# Altium footprint library Diod.PcbLib: 392 footprints (part 22 of 25)
Each footprint in its own frame and in the unit in brackets; x right, y up, seen from the top. Pads: shape width x height; smd on the part's side, far side on the other; paste and mask are expansions set on the pad; w line width, h text height; cw(c..) or ccw(c..) is an arc to the next point about the centre after c.
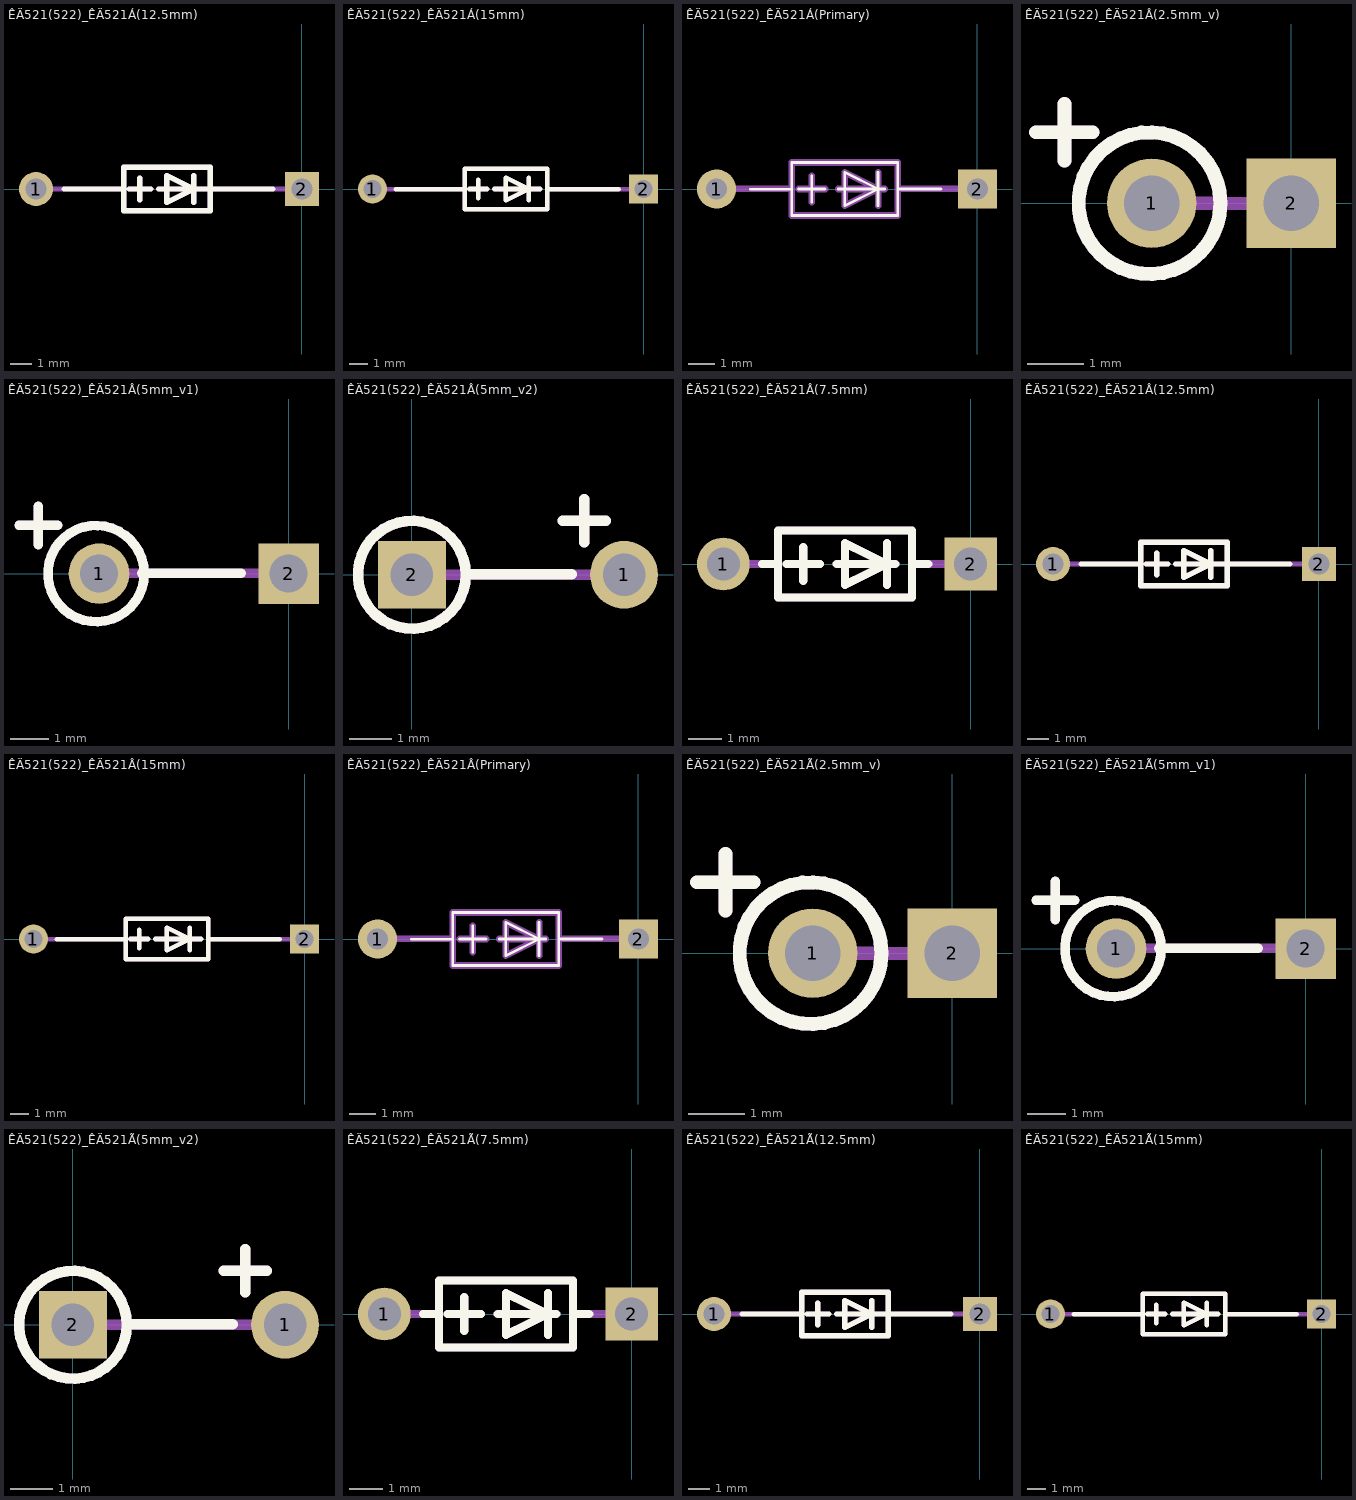
[diagram p21: the footprints below, top view; thin cyan lines are the x and y axes]

## ÊÄ521(522)_ÊÄ521Á(12.5mm) [mm]
pads (2):
  round 1.6 hole 1: 1(-12.5,0)
  rect 1.6x1.6 hole 1: 2(0,0)
Top Overlay:
  lines w0.25: -11.187,0 -8.382,0 ; -8.128,0 -7.112,0 ; -7.62,-0.508 -7.62,0.508 ; -6.731,0 -6.35,0 -4.445,0 ; -5.08,-0.635 -5.08,0.635 ; -4.318,0 -1.371,0 ; -8.382,-1.016 -4.318,-1.016 -4.318,1.016 -8.382,1.016 -8.382,-1.016 ; -6.35,-0.635 -5.08,0 -6.35,0.635 -6.35,-0.635
Mechanical 1:
  lines w0.25: -12.503,0 -8.382,0 ; -8.128,0 -7.112,0 ; -7.62,-0.508 -7.62,0.508 ; -6.731,0 -6.35,0 -4.445,0 ; -5.08,-0.635 -5.08,0.635 ; -4.318,0 0,0.006 ; -8.382,-1.016 -4.318,-1.016 -4.318,1.016 -8.382,1.016 -8.382,-1.016 ; -6.35,-0.635 -5.08,0 -6.35,0.635 -6.35,-0.635

## ÊÄ521(522)_ÊÄ521Á(15mm) [mm]
pads (2):
  round 1.6 hole 1: 1(-15,0)
  rect 1.6x1.6 hole 1: 2(0,0)
Top Overlay:
  lines w0.25: -13.714,-0.001 -9.906,0 ; -9.652,0 -8.636,0 ; -9.144,-0.508 -9.144,0.508 ; -8.255,0 -5.715,0 ; -6.35,-0.635 -6.35,0.635 ; -5.334,0 -1.361,-0.004 ; -9.906,-1.118 -5.334,-1.118 -5.334,1.118 -9.906,1.118 -9.906,-1.118 ; -7.62,-0.635 -7.62,0.635 -6.35,0 -7.62,-0.635
Mechanical 1:
  lines w0.25: -15.003,-0.004 -9.906,0 ; -9.652,0 -8.636,0 ; -9.144,-0.508 -9.144,0.508 ; -8.255,0 -5.715,0 ; -6.35,-0.635 -6.35,0.635 ; -5.334,0 0,-0.004 ; -9.906,-1.118 -5.334,-1.118 -5.334,1.118 -9.906,1.118 -9.906,-1.118 ; -7.62,-0.635 -7.62,0.635 -6.35,0 -7.62,-0.635

## ÊÄ521(522)_ÊÄ521Á(Primary) [mm]
pads (2):
  round 1.5 hole 0.8: 1(-10,0)
  rect 1.5x1.5 hole 0.8: 2(0,0)
Top Overlay:
  lines w0.1: -8.707,-0.004 -7.112,0 ; -6.858,0 -5.842,0 ; -6.35,-0.508 -6.35,0.508 ; -5.334,0 -3.556,0 ; -3.81,-0.635 -3.81,0.635 ; -3.048,0 -1.398,-0.002 ; -7.112,-1.016 -3.048,-1.016 -3.048,1.016 -7.112,1.016 -7.112,-1.016 ; -5.08,-0.635 -3.81,0 -5.08,0.635 -5.08,-0.635
Mechanical 1:
  lines w0.25: -10.002,0.003 -7.112,0 ; -6.858,0 -5.842,0 ; -6.35,-0.508 -6.35,0.508 ; -5.334,0 -3.556,0 ; -3.81,-0.635 -3.81,0.635 ; -3.048,0 0,0.003 ; -7.112,-1.016 -3.048,-1.016 -3.048,1.016 -7.112,1.016 -7.112,-1.016 ; -5.08,-0.635 -3.81,0 -5.08,0.635 -5.08,-0.635

## ÊÄ521(522)_ÊÄ521Â(2.5mm_v) [mm]
pads (2):
  round 1.6 hole 1: 1(-2.5,0)
  rect 1.6x1.6 hole 1: 2(0,0)
Top Overlay:
  circle w0.25: c-2.54,0 r1.27
  lines w0.25: -4.572,1.27 -3.556,1.27 ; -4.064,0.762 -4.064,1.778
Mechanical 1:
  circle w0.25: c-2.54,0 r1.27
  lines w0.25: -4.572,1.27 -3.556,1.27 ; -4.064,0.762 -4.064,1.778 ; -2.33,0 -0.43,-0.01

## ÊÄ521(522)_ÊÄ521Â(5mm_v1) [mm]
pads (2):
  round 1.6 hole 1: 1(-5,0)
  rect 1.6x1.6 hole 1: 2(0,0)
Top Overlay:
  circle w0.25: c-5.08,0 r1.27
  lines w0.25: -7.112,1.27 -6.096,1.27 ; -6.604,0.762 -6.604,1.778 ; -3.877,0.007 -1.251,0.007
Mechanical 1:
  circle w0.25: c-5.08,0 r1.27
  lines w0.25: -7.112,1.27 -6.096,1.27 ; -6.604,0.762 -6.604,1.778 ; -4.77,0.01 -0.42,0.01

## ÊÄ521(522)_ÊÄ521Â(5mm_v2) [mm]
pads (2):
  round 1.6 hole 1: 1(5,0)
  rect 1.6x1.6 hole 1: 2(0,0)
Top Overlay:
  circle w0.25: c0,0 r1.27
  lines w0.25: 1.266,0.008 3.761,0.008 ; 3.556,1.27 4.572,1.27 ; 4.064,0.762 4.064,1.778
Mechanical 1:
  circle w0.25: c0,0 r1.27
  lines w0.25: 0,0 4.5,0 ; 3.556,1.27 4.572,1.27 ; 4.064,0.762 4.064,1.778

## ÊÄ521(522)_ÊÄ521Â(7.5mm) [mm]
pads (2):
  round 1.6 hole 1: 1(-7.5,0)
  rect 1.6x1.6 hole 1: 2(0,0)
Top Overlay:
  lines w0.25: -6.328,-0.001 -5.842,0 ; -5.588,0 -4.572,0 ; -5.08,-0.508 -5.08,0.508 ; -4.064,0 -2.286,0 ; -2.54,-0.635 -2.54,0.635 ; -1.778,0 -1.284,-0.001 ; -5.842,-1.016 -1.778,-1.016 -1.778,1.016 -5.842,1.016 -5.842,-1.016 ; -3.81,-0.635 -2.54,0 -3.81,0.635 -3.81,-0.635
Mechanical 1:
  lines w0.25: -7.499,-0.001 -5.842,0 ; -5.588,0 -4.572,0 ; -5.08,-0.508 -5.08,0.508 ; -4.064,0 -2.286,0 ; -2.54,-0.635 -2.54,0.635 ; -1.778,0 0.001,-0.001 ; -5.842,-1.016 -1.778,-1.016 -1.778,1.016 -5.842,1.016 -5.842,-1.016 ; -3.81,-0.635 -2.54,0 -3.81,0.635 -3.81,-0.635

## ÊÄ521(522)_ÊÄ521Â(12.5mm) [mm]
pads (2):
  round 1.6 hole 1: 1(-12.5,0)
  rect 1.6x1.6 hole 1: 2(0,0)
Top Overlay:
  lines w0.25: -11.187,0 -8.382,0 ; -8.128,0 -7.112,0 ; -7.62,-0.508 -7.62,0.508 ; -6.731,0 -6.35,0 -4.445,0 ; -5.08,-0.635 -5.08,0.635 ; -4.318,0 -1.371,0 ; -8.382,-1.016 -4.318,-1.016 -4.318,1.016 -8.382,1.016 -8.382,-1.016 ; -6.35,-0.635 -5.08,0 -6.35,0.635 -6.35,-0.635
Mechanical 1:
  lines w0.25: -12.503,0 -8.382,0 ; -8.128,0 -7.112,0 ; -7.62,-0.508 -7.62,0.508 ; -6.731,0 -6.35,0 -4.445,0 ; -5.08,-0.635 -5.08,0.635 ; -4.318,0 0,0.006 ; -8.382,-1.016 -4.318,-1.016 -4.318,1.016 -8.382,1.016 -8.382,-1.016 ; -6.35,-0.635 -5.08,0 -6.35,0.635 -6.35,-0.635

## ÊÄ521(522)_ÊÄ521Â(15mm) [mm]
pads (2):
  round 1.6 hole 1: 1(-15,0)
  rect 1.6x1.6 hole 1: 2(0,0)
Top Overlay:
  lines w0.25: -13.714,-0.001 -9.906,0 ; -9.652,0 -8.636,0 ; -9.144,-0.508 -9.144,0.508 ; -8.255,0 -5.715,0 ; -6.35,-0.635 -6.35,0.635 ; -5.334,0 -1.361,-0.004 ; -9.906,-1.118 -5.334,-1.118 -5.334,1.118 -9.906,1.118 -9.906,-1.118 ; -7.62,-0.635 -7.62,0.635 -6.35,0 -7.62,-0.635
Mechanical 1:
  lines w0.25: -15.003,-0.004 -9.906,0 ; -9.652,0 -8.636,0 ; -9.144,-0.508 -9.144,0.508 ; -8.255,0 -5.715,0 ; -6.35,-0.635 -6.35,0.635 ; -5.334,0 0,-0.004 ; -9.906,-1.118 -5.334,-1.118 -5.334,1.118 -9.906,1.118 -9.906,-1.118 ; -7.62,-0.635 -7.62,0.635 -6.35,0 -7.62,-0.635

## ÊÄ521(522)_ÊÄ521Â(Primary) [mm]
pads (2):
  round 1.5 hole 0.8: 1(-10,0)
  rect 1.5x1.5 hole 0.8: 2(0,0)
Top Overlay:
  lines w0.1: -8.707,-0.004 -7.112,0 ; -6.858,0 -5.842,0 ; -6.35,-0.508 -6.35,0.508 ; -5.334,0 -3.556,0 ; -3.81,-0.635 -3.81,0.635 ; -3.048,0 -1.398,-0.002 ; -7.112,-1.016 -3.048,-1.016 -3.048,1.016 -7.112,1.016 -7.112,-1.016 ; -5.08,-0.635 -3.81,0 -5.08,0.635 -5.08,-0.635
Mechanical 1:
  lines w0.25: -10.002,0.003 -7.112,0 ; -6.858,0 -5.842,0 ; -6.35,-0.508 -6.35,0.508 ; -5.334,0 -3.556,0 ; -3.81,-0.635 -3.81,0.635 ; -3.048,0 0,0.003 ; -7.112,-1.016 -3.048,-1.016 -3.048,1.016 -7.112,1.016 -7.112,-1.016 ; -5.08,-0.635 -3.81,0 -5.08,0.635 -5.08,-0.635

## ÊÄ521(522)_ÊÄ521Ã(2.5mm_v) [mm]
pads (2):
  round 1.6 hole 1: 1(-2.5,0)
  rect 1.6x1.6 hole 1: 2(0,0)
Top Overlay:
  circle w0.25: c-2.54,0 r1.27
  lines w0.25: -4.572,1.27 -3.556,1.27 ; -4.064,0.762 -4.064,1.778
Mechanical 1:
  circle w0.25: c-2.54,0 r1.27
  lines w0.25: -4.572,1.27 -3.556,1.27 ; -4.064,0.762 -4.064,1.778 ; -2.33,0 -0.43,-0.01

## ÊÄ521(522)_ÊÄ521Ã(5mm_v1) [mm]
pads (2):
  round 1.6 hole 1: 1(-5,0)
  rect 1.6x1.6 hole 1: 2(0,0)
Top Overlay:
  circle w0.25: c-5.08,0 r1.27
  lines w0.25: -7.112,1.27 -6.096,1.27 ; -6.604,0.762 -6.604,1.778 ; -3.877,0.007 -1.251,0.007
Mechanical 1:
  circle w0.25: c-5.08,0 r1.27
  lines w0.25: -7.112,1.27 -6.096,1.27 ; -6.604,0.762 -6.604,1.778 ; -4.77,0.01 -0.42,0.01

## ÊÄ521(522)_ÊÄ521Ã(5mm_v2) [mm]
pads (2):
  round 1.6 hole 1: 1(5,0)
  rect 1.6x1.6 hole 1: 2(0,0)
Top Overlay:
  circle w0.25: c0,0 r1.27
  lines w0.25: 1.266,0.008 3.761,0.008 ; 3.556,1.27 4.572,1.27 ; 4.064,0.762 4.064,1.778
Mechanical 1:
  circle w0.25: c0,0 r1.27
  lines w0.25: 0,0 4.5,0 ; 3.556,1.27 4.572,1.27 ; 4.064,0.762 4.064,1.778

## ÊÄ521(522)_ÊÄ521Ã(7.5mm) [mm]
pads (2):
  round 1.6 hole 1: 1(-7.5,0)
  rect 1.6x1.6 hole 1: 2(0,0)
Top Overlay:
  lines w0.25: -6.328,-0.001 -5.842,0 ; -5.588,0 -4.572,0 ; -5.08,-0.508 -5.08,0.508 ; -4.064,0 -2.286,0 ; -2.54,-0.635 -2.54,0.635 ; -1.778,0 -1.284,-0.001 ; -5.842,-1.016 -1.778,-1.016 -1.778,1.016 -5.842,1.016 -5.842,-1.016 ; -3.81,-0.635 -2.54,0 -3.81,0.635 -3.81,-0.635
Mechanical 1:
  lines w0.25: -7.499,-0.001 -5.842,0 ; -5.588,0 -4.572,0 ; -5.08,-0.508 -5.08,0.508 ; -4.064,0 -2.286,0 ; -2.54,-0.635 -2.54,0.635 ; -1.778,0 0.001,-0.001 ; -5.842,-1.016 -1.778,-1.016 -1.778,1.016 -5.842,1.016 -5.842,-1.016 ; -3.81,-0.635 -2.54,0 -3.81,0.635 -3.81,-0.635

## ÊÄ521(522)_ÊÄ521Ã(12.5mm) [mm]
pads (2):
  round 1.6 hole 1: 1(-12.5,0)
  rect 1.6x1.6 hole 1: 2(0,0)
Top Overlay:
  lines w0.25: -11.187,0 -8.382,0 ; -8.128,0 -7.112,0 ; -7.62,-0.508 -7.62,0.508 ; -6.731,0 -6.35,0 -4.445,0 ; -5.08,-0.635 -5.08,0.635 ; -4.318,0 -1.371,0 ; -8.382,-1.016 -4.318,-1.016 -4.318,1.016 -8.382,1.016 -8.382,-1.016 ; -6.35,-0.635 -5.08,0 -6.35,0.635 -6.35,-0.635
Mechanical 1:
  lines w0.25: -12.503,0 -8.382,0 ; -8.128,0 -7.112,0 ; -7.62,-0.508 -7.62,0.508 ; -6.731,0 -6.35,0 -4.445,0 ; -5.08,-0.635 -5.08,0.635 ; -4.318,0 0,0.006 ; -8.382,-1.016 -4.318,-1.016 -4.318,1.016 -8.382,1.016 -8.382,-1.016 ; -6.35,-0.635 -5.08,0 -6.35,0.635 -6.35,-0.635

## ÊÄ521(522)_ÊÄ521Ã(15mm) [mm]
pads (2):
  round 1.6 hole 1: 1(-15,0)
  rect 1.6x1.6 hole 1: 2(0,0)
Top Overlay:
  lines w0.25: -13.714,-0.001 -9.906,0 ; -9.652,0 -8.636,0 ; -9.144,-0.508 -9.144,0.508 ; -8.255,0 -5.715,0 ; -6.35,-0.635 -6.35,0.635 ; -5.334,0 -1.361,-0.004 ; -9.906,-1.118 -5.334,-1.118 -5.334,1.118 -9.906,1.118 -9.906,-1.118 ; -7.62,-0.635 -7.62,0.635 -6.35,0 -7.62,-0.635
Mechanical 1:
  lines w0.25: -15.003,-0.004 -9.906,0 ; -9.652,0 -8.636,0 ; -9.144,-0.508 -9.144,0.508 ; -8.255,0 -5.715,0 ; -6.35,-0.635 -6.35,0.635 ; -5.334,0 0,-0.004 ; -9.906,-1.118 -5.334,-1.118 -5.334,1.118 -9.906,1.118 -9.906,-1.118 ; -7.62,-0.635 -7.62,0.635 -6.35,0 -7.62,-0.635